# EAGLE library part XMOS-PORT-F (library sjg-con)
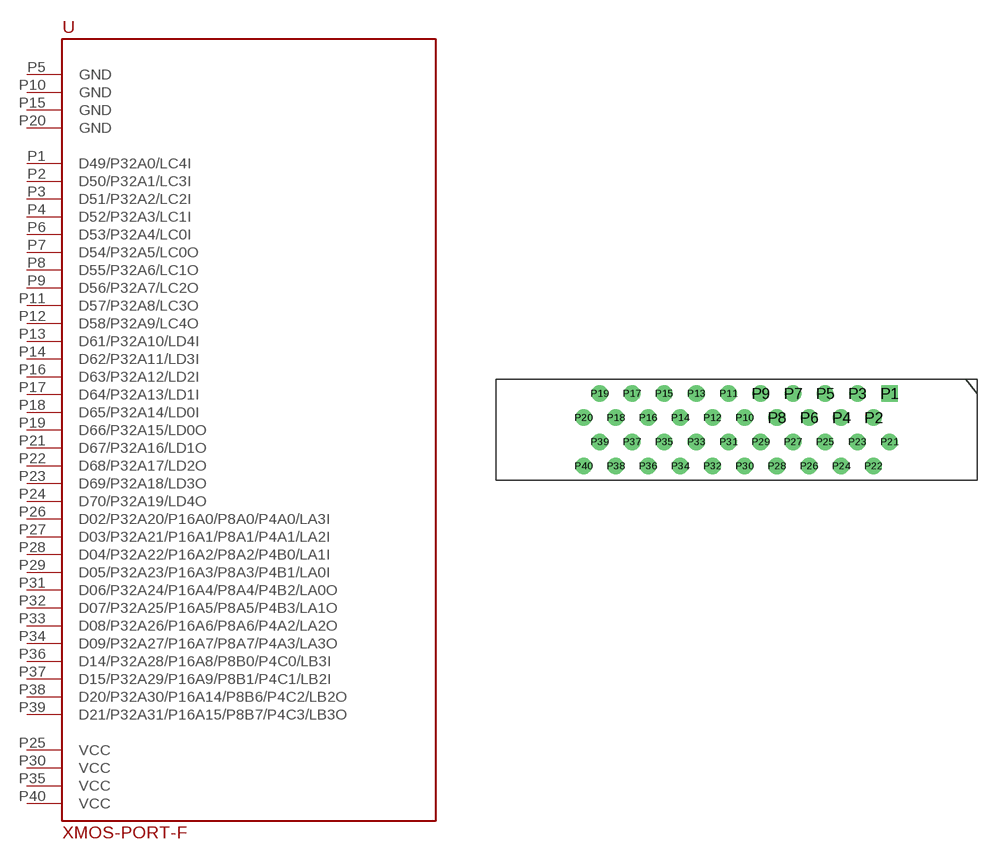
[diagram p1: symbol with the pads of JAE-TX24-40; footprint JAE-TX24-40]

Designator prefix -

## XMOS-PORT-F  [JAE-TX24-40]
P1  D49/P32A0/LC4I
P2  D50/P32A1/LC3I
P3  D51/P32A2/LC2I
P4  D52/P32A3/LC1I
P5  GND
P6  D53/P32A4/LC0I
P7  D54/P32A5/LC0O
P8  D55/P32A6/LC1O
P9  D56/P32A7/LC2O
P10  GND
P11  D57/P32A8/LC3O
P12  D58/P32A9/LC4O
P13  D61/P32A10/LD4I
P14  D62/P32A11/LD3I
P15  GND
P16  D63/P32A12/LD2I
P17  D64/P32A13/LD1I
P18  D65/P32A14/LD0I
P19  D66/P32A15/LD0O
P20  GND
P21  D67/P32A16/LD1O
P22  D68/P32A17/LD2O
P23  D69/P32A18/LD3O
P24  D70/P32A19/LD4O
P25  VCC
P26  D02/P32A20/P16A0/P8A0/P4A0/LA3I
P27  D03/P32A21/P16A1/P8A1/P4A1/LA2I
P28  D04/P32A22/P16A2/P8A2/P4B0/LA1I
P29  D05/P32A23/P16A3/P8A3/P4B1/LA0I
P30  VCC
P31  D06/P32A24/P16A4/P8A4/P4B2/LA0O
P32  D07/P32A25/P16A5/P8A5/P4B3/LA1O
P33  D08/P32A26/P16A6/P8A6/P4A2/LA2O
P34  D09/P32A27/P16A7/P8A7/P4A3/LA3O
P35  VCC
P36  D14/P32A28/P16A8/P8B0/P4C0/LB3I
P37  D15/P32A29/P16A9/P8B1/P4C1/LB2I
P38  D20/P32A30/P16A14/P8B6/P4C2/LB2O
P39  D21/P32A31/P16A15/P8B7/P4C3/LB3O
P40  VCC

## Footprint JAE-TX24-40 (pad centres in mm)
drill 0.8 square: P1 12,3
drill 0.8: P2 10.73,1.095; P3 9.46,3; P4 8.19,1.095; P5 6.92,3; P6 5.65,1.095; P7 4.38,3; P8 3.11,1.095; P9 1.84,3; P10 0.57,1.095; P11 -0.7,3; P12 -1.97,1.095; P13 -3.24,3; P14 -4.51,1.095; P15 -5.78,3; P16 -7.05,1.095; P17 -8.32,3; P18 -9.59,1.095; P19 -10.86,3; P20 -12.13,1.095; P21 12,-0.81; P22 10.73,-2.715; P23 9.46,-0.81; P24 8.19,-2.715; P25 6.92,-0.81; P26 5.65,-2.715; P27 4.38,-0.81; P28 3.11,-2.715; P29 1.84,-0.81; P30 0.57,-2.715; P31 -0.7,-0.81; P32 -1.97,-2.715; P33 -3.24,-0.81; P34 -4.51,-2.715; P35 -5.78,-0.81; P36 -7.05,-2.715; P37 -8.32,-0.81; P38 -9.59,-2.715; P39 -10.86,-0.81; P40 -12.13,-2.715